# Altium footprint library PCB - SWITCH - E-SWITCH - TL1105RF160Q94VO.PcbLib: 1 footprints
Each footprint in its own frame and in the unit in brackets; x right, y up, seen from the top. Pads: shape width x height; smd on the part's side, far side on the other; paste and mask are expansions set on the pad; w line width, h text height; cw(c..) or ccw(c..) is an arc to the next point about the centre after c.
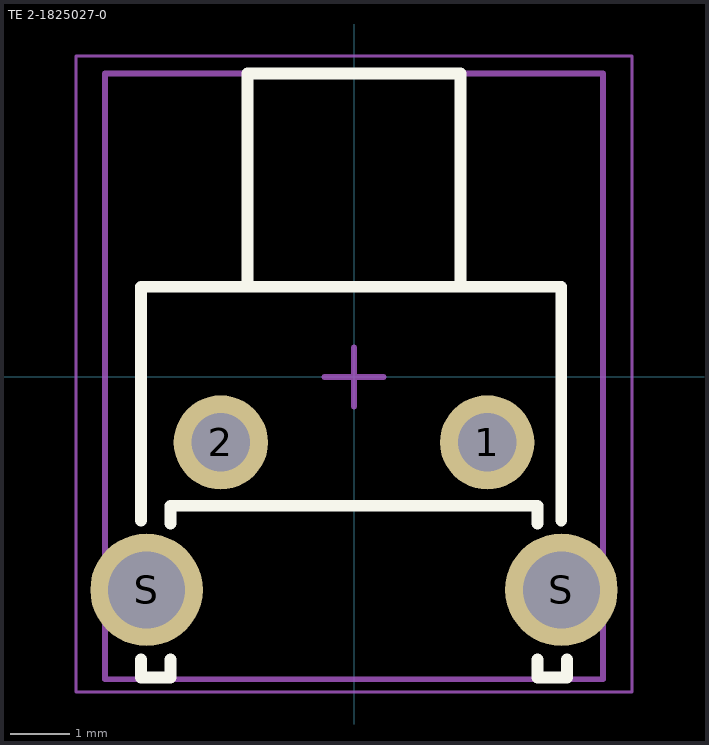
[diagram p0: the footprint, top view; thin cyan lines are the x and y axes]

## TE 2-1825027-0 [mm] "actile Switches, Round Actuator Style, Operating Function NO,Right Angle, Body 15.53x7.11mm, Pitch 2.25mm"
height 7
pads (4):
  round 1.59 hole 0.99: 1(2.25,-1.106) 2(-2.25,-1.106)
  round 1.9 hole 1.3: S(-3.505,-3.596) S(3.505,-3.596)
Top Overlay:
  lines w0.2: -3.6,-4.775 -3.6,-5.075 -3.1,-5.075 -3.1,-4.775 ; -3.6,-2.425 -3.6,1.525 3.5,1.525 3.5,-2.425 ; -3.1,-2.475 -3.1,-2.175 3.1,-2.175 3.1,-2.475 ; -1.8,1.525 -1.8,5.125 1.8,5.125 1.8,1.525 ; 3.1,-4.775 3.1,-5.075 3.6,-5.075 3.6,-4.775
Mechanical 1:
  lines w0.1: -4.204,-5.106 4.204,-5.106 4.204,5.125 -4.204,5.125 -4.204,-5.106
Mechanical 15:
  lines w0.05: -4.7,-5.325 4.7,-5.325 4.7,5.425 -4.7,5.425 -4.7,-5.325
  lines w0.1: -0.5,0 0.5,0 -0.5,0 ; 0,-0.5 0,0.5 0,-0.5
3D body "E-Switch TL1105RF160Q94VO.step": height 7.3, standoff -3.7, extent -4.198,-5.085 4.198,5.085